# Altium integrated library National Semiconductor MiscPower.IntLib: 1552 symbols (part 30 of 43)
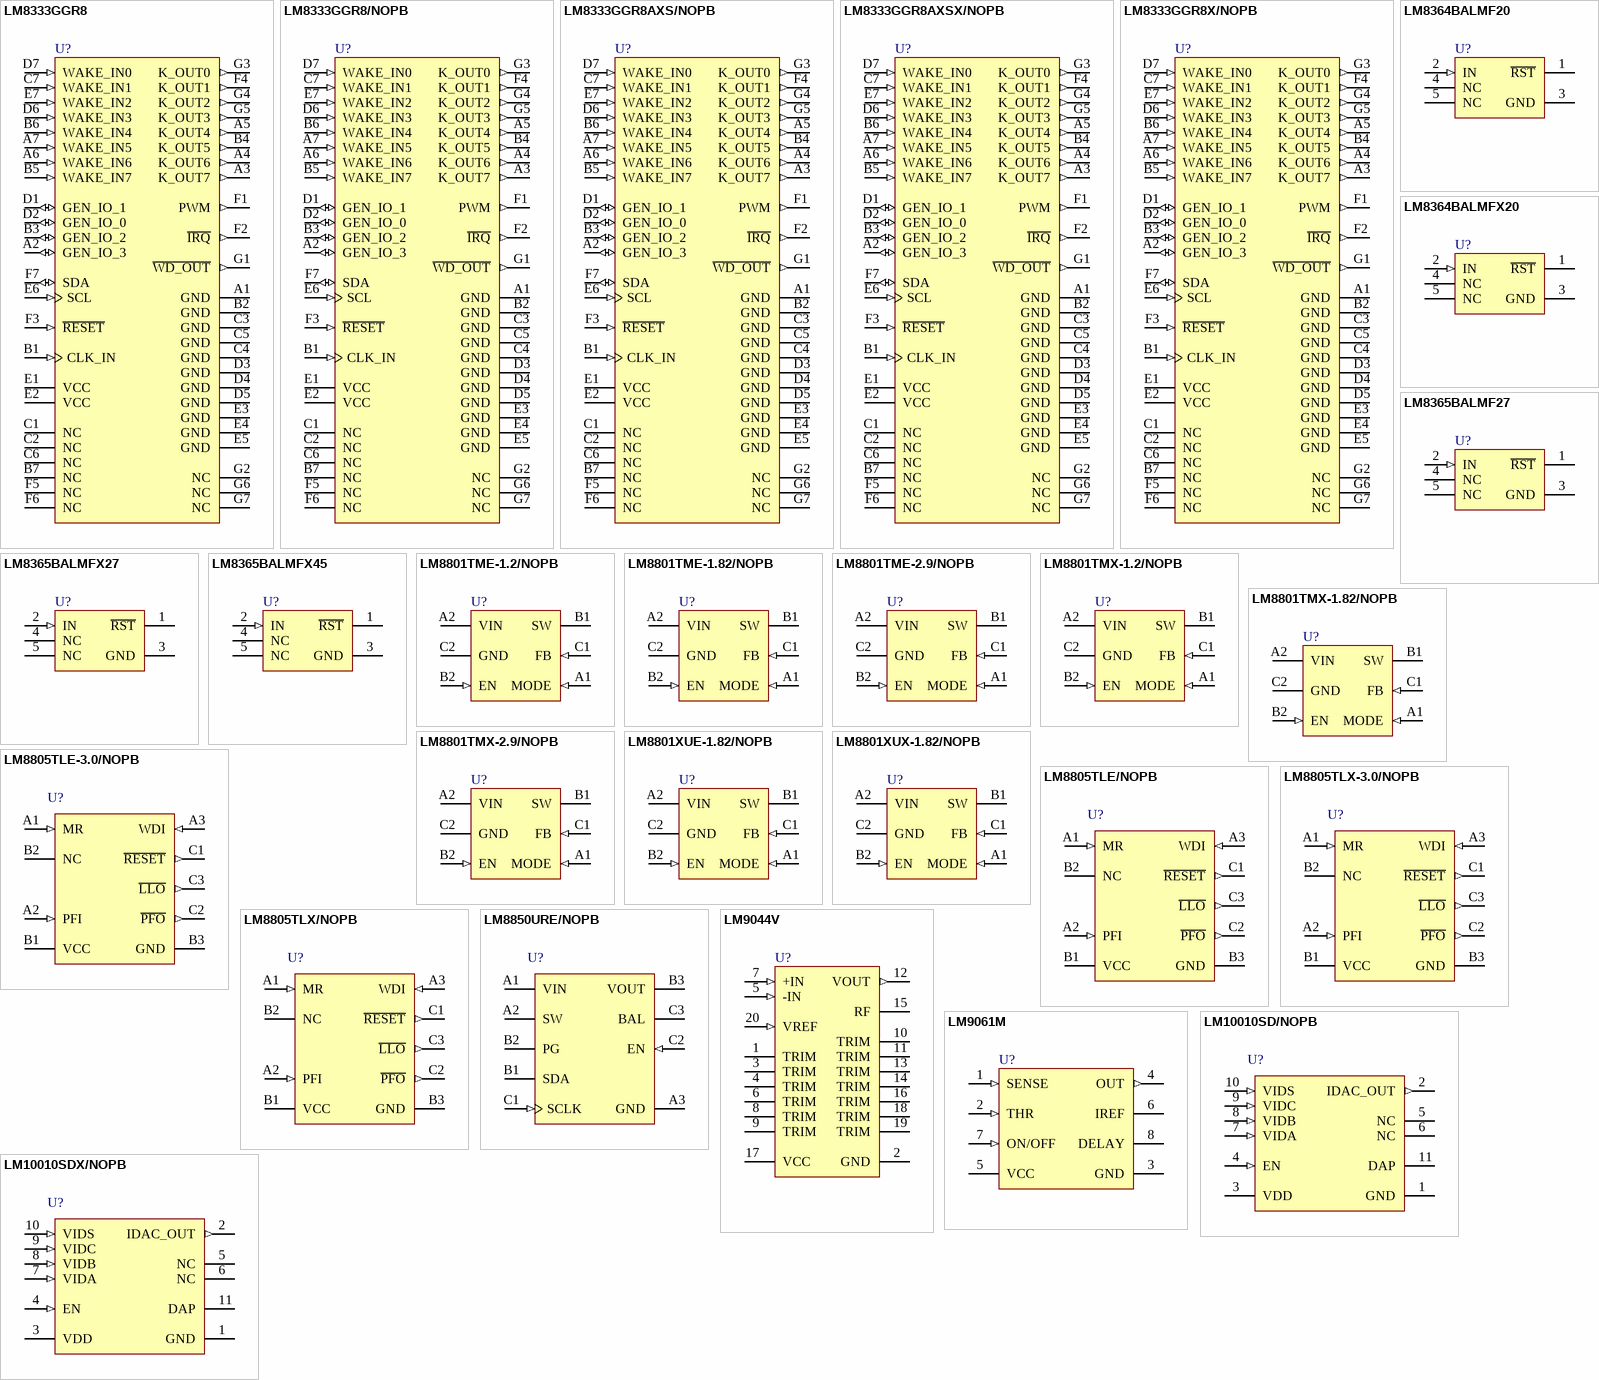
[diagram p86: symbols LM8333GGR8 to LM10010SDX/NOPB]

## LM9061M
designator U?
Power MOSFET Driver with Lossless Protection, 8-pin Narrow SOIC; PartNumber: LM9061M; Manufacturer: National Semiconductor; PackageTopMarking: NSZXTT*LM90*61M; PowerWise: N; CompType: MiscPower; High-Reliability: Y; DatasheetVersion: Aug-2006; PackageVersion: revM, May-2009; PackageReference: M08A; PackageDescription: SOIC Narrow, 4.9 x 3.9 x 1.45mm, 8 Lead, 1.27mm Pitch; RoHS: N; PinCount: 8; Code_JEDEC: MS-012-AA; Code_IPC: SOIC127P600-8; ComponentLink1Description: Manufacturer URL; ComponentLink1URL: http://www.national.com/; ComponentLink2Description: LM9061 Datasheet; ComponentLink2URL: http://www.national.com/ds/LM/LM9061.pdf; ComponentLink3Description: LM9061 Web Page; ComponentLink3URL: http://www.national.com/pf/LM/LM9061.html; ComponentLink4Description: M08A Package Page; ComponentLink4URL: http://www.national.com/packaging/folders/m08a.html
footprint M08A_N (SOIC, 8-Leads, Body 4.9x3.9mm, Pitch 1.27mm, IPC Medium Density)
footprint M08A_L (SOIC, 8-Leads, Body 4.9x3.9mm, Pitch 1.27mm, IPC High Density)
footprint M08A_M (SOIC, 8-Leads, Body 4.9x3.9mm, Pitch 1.27mm, IPC Low Density)
pins: 1 SENSE (in), 2 THR (in), 3 GND (power), 4 OUT (out), 5 VCC (power), 6 IREF, 7 ON/OFF (in), 8 DELAY

## LM10010SD/NOPB
designator U?
VID Voltage Programmer for Point of Load Regulator, 10-pin LLP, 1000 Reel; PartNumber: LM10010SD/NOPB; Manufacturer: National Semiconductor; PackageTopMarking: ZXYTT*L254B; PowerWise: N; CompType: MiscPower; High-Reliability: Y; DatasheetVersion: Aug-2011; PackageVersion: revA, Oct-2003; PackageReference: SDA10A; PackageDescription: LLP, Plastic, Dual, 3 x 3 x 0.8mm Body, 10 Lead, 0.5mm Pitch, No Pullback; RoHS: Y; PinCount: 10; ComponentLink1Description: Manufacturer URL; ComponentLink1URL: http://www.national.com/; ComponentLink2Description: LM10010 Datasheet; ComponentLink2URL: http://www.national.com/ds/LM/LM10010.pdf; ComponentLink3Description: LM10010 Web Page; ComponentLink3URL: http://www.national.com/pf/LM/LM10010.html; ComponentLink4Description: SDA10A Package Page; ComponentLink4URL: http://www.national.com/packaging/folders/sda10a.html
footprint SDA10A (SON, 10-Leads, Body 3x3 mm, Pitch 0.5mm, NSC Recommended)
pins: 1 GND (power), 2 IDAC_OUT (out), 3 VDD (power), 4 EN (in), 5 NC, 6 NC, 7 VIDA (in), 8 VIDB (in), 9 VIDC (in), 10 VIDS (in), 11 DAP

## LM10010SDX/NOPB
designator U?
VID Voltage Programmer for Point of Load Regulator, 10-pin LLP, 4500 Reel; PartNumber: LM10010SDX/NOPB; Manufacturer: National Semiconductor; PackageTopMarking: ZXYTT*L254B; PowerWise: N; CompType: MiscPower; High-Reliability: Y; DatasheetVersion: Aug-2011; PackageVersion: revA, Oct-2003; PackageReference: SDA10A; PackageDescription: LLP, Plastic, Dual, 3 x 3 x 0.8mm Body, 10 Lead, 0.5mm Pitch, No Pullback; RoHS: Y; PinCount: 10; ComponentLink1Description: Manufacturer URL; ComponentLink1URL: http://www.national.com/; ComponentLink2Description: LM10010 Datasheet; ComponentLink2URL: http://www.national.com/ds/LM/LM10010.pdf; ComponentLink3Description: LM10010 Web Page; ComponentLink3URL: http://www.national.com/pf/LM/LM10010.html; ComponentLink4Description: SDA10A Package Page; ComponentLink4URL: http://www.national.com/packaging/folders/sda10a.html
footprint SDA10A (SON, 10-Leads, Body 3x3 mm, Pitch 0.5mm, NSC Recommended)
pins: 1 GND (power), 2 IDAC_OUT (out), 3 VDD (power), 4 EN (in), 5 NC, 6 NC, 7 VIDA (in), 8 VIDB (in), 9 VIDC (in), 10 VIDS (in), 11 DAP

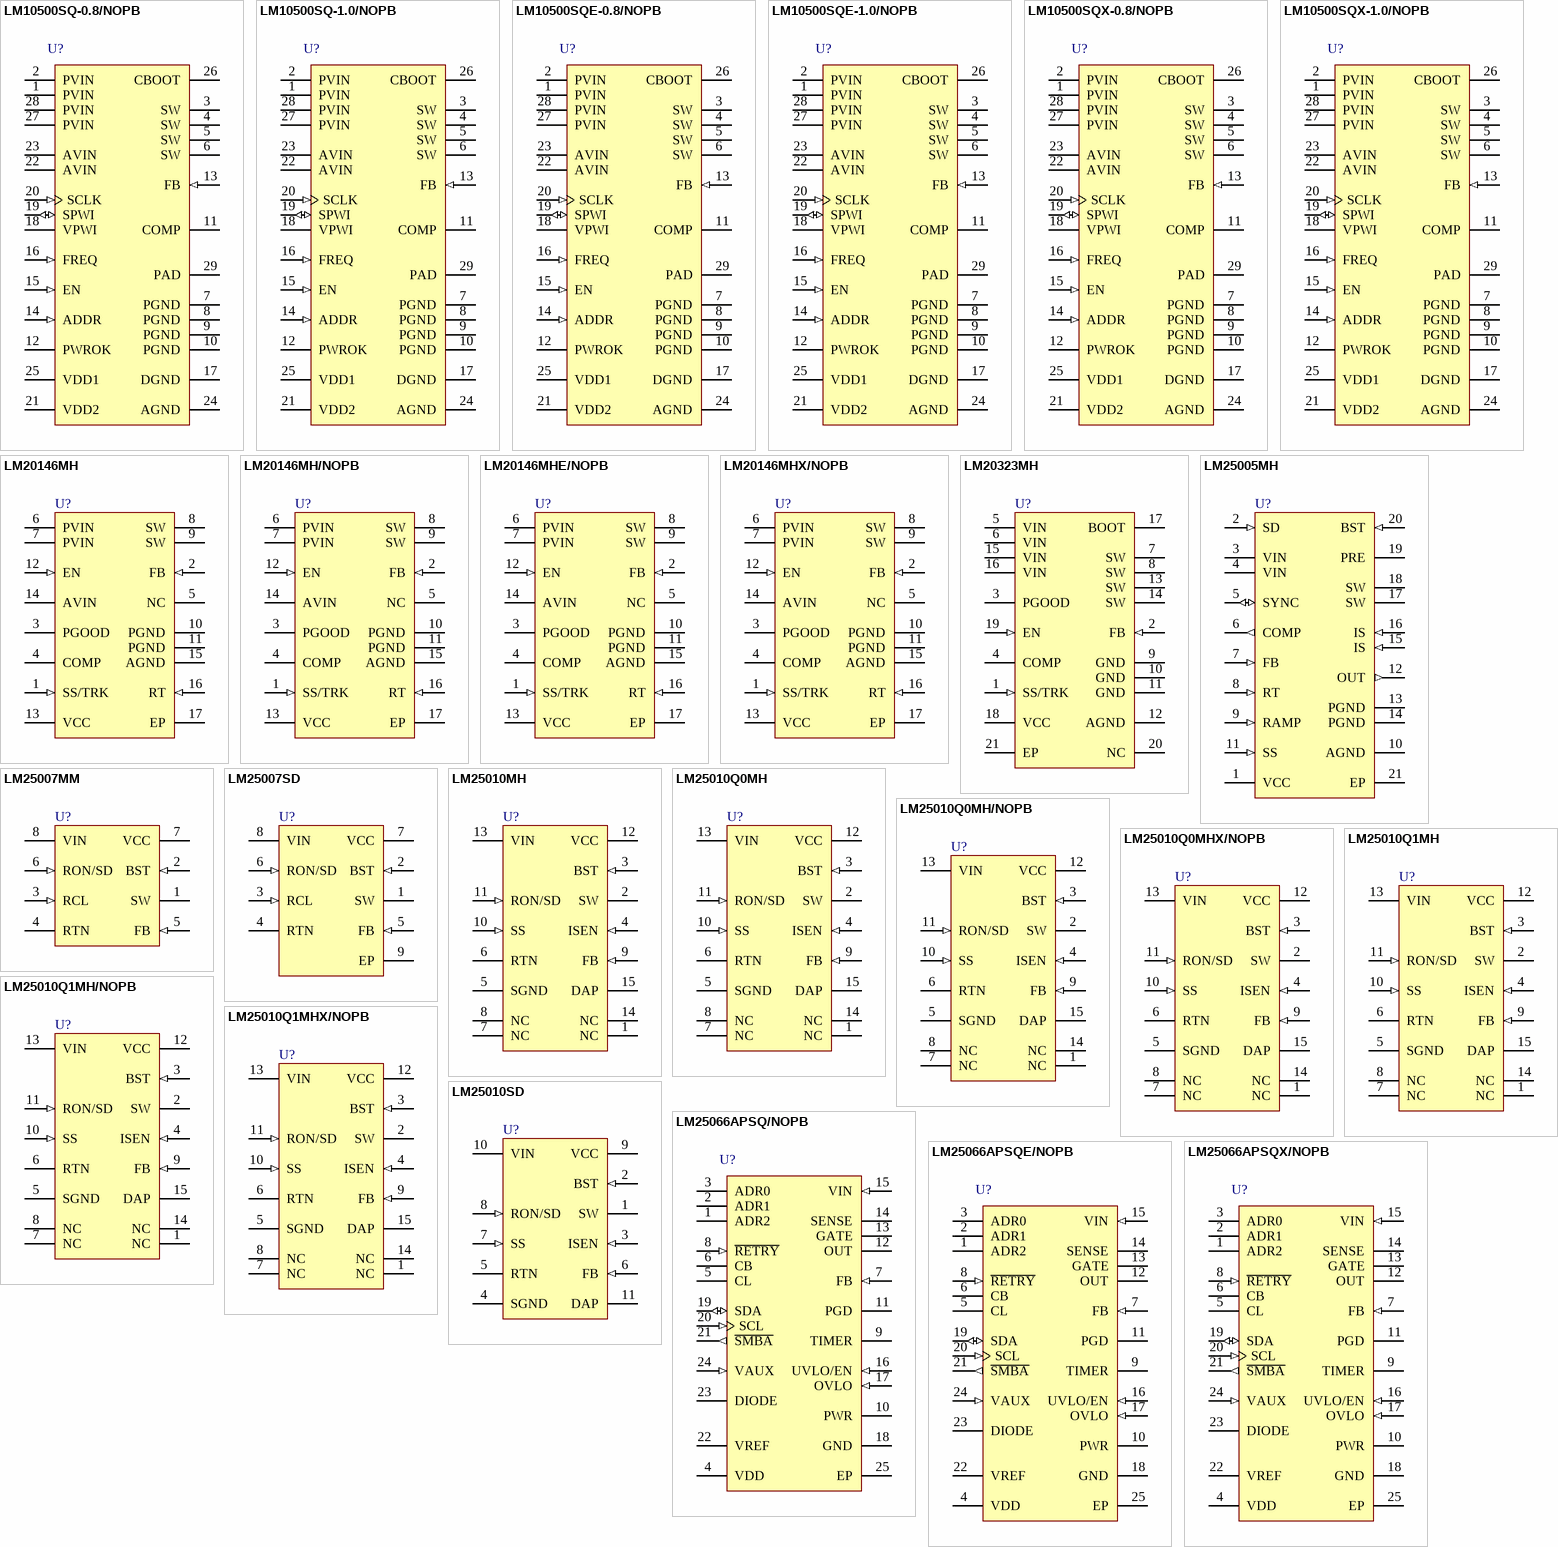
[diagram p33: symbols LM10500SQ-0.8/NOPB to LM25066APSQX/NOPB]

## LM10500SQ-0.8/NOPB
designator U?
5A Step-Down Energy Management Unit (EMU) With PowerWise® Adaptive Voltage Scaling (AVS), 28-pin LLP, 1000 Reel; PartNumber: LM10500SQ-0.8/NOPB; Manufacturer: National Semiconductor; PackageTopMarking: NS*UZXYTT*1050008; PowerWise: Y; CompType: MiscPower; DatasheetVersion: Sep-2011; PackageVersion: revB, Sep-2008; PackageReference: SQA28B; PackageDescription: LLP, Quad, 5 x 5 x 0.8mm Body, 28 Lead, 0.5mm Pitch, No Pullback, 2.8 x 2.8 mm Exposed Pad; RoHS: Y; PinCount: 28; High-Reliability: Y; Code_JEDEC: MO-220-WHHD-1; ComponentLink1Description: Manufacturer URL; ComponentLink1URL: http://www.national.com/; ComponentLink2Description: LM10500 Datasheet; ComponentLink2URL: http://www.national.com/ds/LM/LM10500.pdf; ComponentLink3Description: LM10500 Web Page; ComponentLink3URL: http://www.national.com/pf/LM/LM10500.html; ComponentLink4Description: SQA28B Package Page; ComponentLink4URL: http://www.national.com/packaging/folders/sqa28b.html
footprint SQA28B (QFN, 29-Leads, Body 5x5mm, Pitch 0.5mm, Thermal Pad 2.8x2.8mm, NSC Recommended)
pins: 1 PVIN (power), 2 PVIN (power), 3 SW (power), 4 SW (power), 5 SW (power), 6 SW (power), 7 PGND (power), 8 PGND (power), 9 PGND (power), 10 PGND (power), 11 COMP, 12 PWROK (oc), 13 FB (in), 14 ADDR (in), 15 EN (in), 16 FREQ (in), 17 DGND (power), 18 VPWI (power), 19 SPWI (io), 20 SCLK (in), 21 VDD2 (power), 22 AVIN (power), 23 AVIN (power), 24 AGND (power), 25 VDD1 (power), 26 CBOOT, 27 PVIN (power), 28 PVIN (power), 29 PAD (power)

## LM10500SQ-1.0/NOPB
designator U?
5A Step-Down Energy Management Unit (EMU) With PowerWise® Adaptive Voltage Scaling (AVS), 28-pin LLP, 1000 Reel; PartNumber: LM10500SQ-1.0/NOPB; Manufacturer: National Semiconductor; PackageTopMarking: NS*UZXYTT*1050010; PowerWise: Y; CompType: MiscPower; DatasheetVersion: Sep-2011; PackageVersion: revB, Sep-2008; PackageReference: SQA28B; PackageDescription: LLP, Quad, 5 x 5 x 0.8mm Body, 28 Lead, 0.5mm Pitch, No Pullback, 2.8 x 2.8 mm Exposed Pad; RoHS: Y; PinCount: 28; High-Reliability: Y; Code_JEDEC: MO-220-WHHD-1; ComponentLink1Description: Manufacturer URL; ComponentLink1URL: http://www.national.com/; ComponentLink2Description: LM10500 Datasheet; ComponentLink2URL: http://www.national.com/ds/LM/LM10500.pdf; ComponentLink3Description: LM10500 Web Page; ComponentLink3URL: http://www.national.com/pf/LM/LM10500.html; ComponentLink4Description: SQA28B Package Page; ComponentLink4URL: http://www.national.com/packaging/folders/sqa28b.html
footprint SQA28B (QFN, 29-Leads, Body 5x5mm, Pitch 0.5mm, Thermal Pad 2.8x2.8mm, NSC Recommended)
pins: 1 PVIN (power), 2 PVIN (power), 3 SW (power), 4 SW (power), 5 SW (power), 6 SW (power), 7 PGND (power), 8 PGND (power), 9 PGND (power), 10 PGND (power), 11 COMP, 12 PWROK (oc), 13 FB (in), 14 ADDR (in), 15 EN (in), 16 FREQ (in), 17 DGND (power), 18 VPWI (power), 19 SPWI (io), 20 SCLK (in), 21 VDD2 (power), 22 AVIN (power), 23 AVIN (power), 24 AGND (power), 25 VDD1 (power), 26 CBOOT, 27 PVIN (power), 28 PVIN (power), 29 PAD (power)

## LM10500SQE-0.8/NOPB
designator U?
5A Step-Down Energy Management Unit (EMU) With PowerWise® Adaptive Voltage Scaling (AVS), 28-pin LLP, 2520 Reel; PartNumber: LM10500SQE-0.8/NOPB; Manufacturer: National Semiconductor; PackageTopMarking: NS*UZXYTT*1050008; PowerWise: N; CompType: MiscPower; High-Reliability: Y; DatasheetVersion: Sep-2011; PackageVersion: revB, Sep-2008; PackageReference: SQA28B; PackageDescription: LLP, Quad, 5 x 5 x 0.8mm Body, 28 Lead, 0.5mm Pitch, No Pullback, 2.8 x 2.8 mm Exposed Pad; RoHS: Y; PinCount: 28; Code_JEDEC: MO-220-WHHD-1; ComponentLink1Description: Manufacturer URL; ComponentLink1URL: http://www.national.com/; ComponentLink2Description: LM10500 Datasheet; ComponentLink2URL: http://www.national.com/ds/LM/LM10500.pdf; ComponentLink3Description: LM10500 Web Page; ComponentLink3URL: http://www.national.com/pf/LM/LM10500.html; ComponentLink4Description: SQA28B Package Page; ComponentLink4URL: http://www.national.com/packaging/folders/sqa28b.html
footprint SQA28B (QFN, 29-Leads, Body 5x5mm, Pitch 0.5mm, Thermal Pad 2.8x2.8mm, NSC Recommended)
pins: 1 PVIN (power), 2 PVIN (power), 3 SW (power), 4 SW (power), 5 SW (power), 6 SW (power), 7 PGND (power), 8 PGND (power), 9 PGND (power), 10 PGND (power), 11 COMP, 12 PWROK (oc), 13 FB (in), 14 ADDR (in), 15 EN (in), 16 FREQ (in), 17 DGND (power), 18 VPWI (power), 19 SPWI (io), 20 SCLK (in), 21 VDD2 (power), 22 AVIN (power), 23 AVIN (power), 24 AGND (power), 25 VDD1 (power), 26 CBOOT, 27 PVIN (power), 28 PVIN (power), 29 PAD (power)

## LM10500SQE-1.0/NOPB
designator U?
5A Step-Down Energy Management Unit (EMU) With PowerWise® Adaptive Voltage Scaling (AVS), 28-pin LLP, 2520 Reel; PartNumber: LM10500SQE-1.0/NOPB; Manufacturer: National Semiconductor; PackageTopMarking: NS*UZXYTT*1050010; PowerWise: N; CompType: MiscPower; High-Reliability: Y; DatasheetVersion: Sep-2011; PackageVersion: revB, Sep-2008; PackageReference: SQA28B; PackageDescription: LLP, Quad, 5 x 5 x 0.8mm Body, 28 Lead, 0.5mm Pitch, No Pullback, 2.8 x 2.8 mm Exposed Pad; RoHS: Y; PinCount: 28; Code_JEDEC: MO-220-WHHD-1; ComponentLink1Description: Manufacturer URL; ComponentLink1URL: http://www.national.com/; ComponentLink2Description: LM10500 Datasheet; ComponentLink2URL: http://www.national.com/ds/LM/LM10500.pdf; ComponentLink3Description: LM10500 Web Page; ComponentLink3URL: http://www.national.com/pf/LM/LM10500.html; ComponentLink4Description: SQA28B Package Page; ComponentLink4URL: http://www.national.com/packaging/folders/sqa28b.html
footprint SQA28B (QFN, 29-Leads, Body 5x5mm, Pitch 0.5mm, Thermal Pad 2.8x2.8mm, NSC Recommended)
pins: 1 PVIN (power), 2 PVIN (power), 3 SW (power), 4 SW (power), 5 SW (power), 6 SW (power), 7 PGND (power), 8 PGND (power), 9 PGND (power), 10 PGND (power), 11 COMP, 12 PWROK (oc), 13 FB (in), 14 ADDR (in), 15 EN (in), 16 FREQ (in), 17 DGND (power), 18 VPWI (power), 19 SPWI (io), 20 SCLK (in), 21 VDD2 (power), 22 AVIN (power), 23 AVIN (power), 24 AGND (power), 25 VDD1 (power), 26 CBOOT, 27 PVIN (power), 28 PVIN (power), 29 PAD (power)

## LM10500SQX-0.8/NOPB
designator U?
5A Step-Down Energy Management Unit (EMU) With PowerWise® Adaptive Voltage Scaling (AVS), 28-pin LLP, 4500 Reel; PartNumber: LM10500SQX-0.8/NOPB; Manufacturer: National Semiconductor; PackageTopMarking: NS*UZXYTT*1050008; PowerWise: Y; CompType: MiscPower; DatasheetVersion: Sep-2011; PackageVersion: revB, Sep-2008; PackageReference: SQA28B; PackageDescription: LLP, Quad, 5 x 5 x 0.8mm Body, 28 Lead, 0.5mm Pitch, No Pullback, 2.8 x 2.8 mm Exposed Pad; RoHS: Y; PinCount: 28; High-Reliability: Y; Code_JEDEC: MO-220-WHHD-1; ComponentLink1Description: Manufacturer URL; ComponentLink1URL: http://www.national.com/; ComponentLink2Description: LM10500 Datasheet; ComponentLink2URL: http://www.national.com/ds/LM/LM10500.pdf; ComponentLink3Description: LM10500 Web Page; ComponentLink3URL: http://www.national.com/pf/LM/LM10500.html; ComponentLink4Description: SQA28B Package Page; ComponentLink4URL: http://www.national.com/packaging/folders/sqa28b.html
footprint SQA28B (QFN, 29-Leads, Body 5x5mm, Pitch 0.5mm, Thermal Pad 2.8x2.8mm, NSC Recommended)
pins: 1 PVIN (power), 2 PVIN (power), 3 SW (power), 4 SW (power), 5 SW (power), 6 SW (power), 7 PGND (power), 8 PGND (power), 9 PGND (power), 10 PGND (power), 11 COMP, 12 PWROK (oc), 13 FB (in), 14 ADDR (in), 15 EN (in), 16 FREQ (in), 17 DGND (power), 18 VPWI (power), 19 SPWI (io), 20 SCLK (in), 21 VDD2 (power), 22 AVIN (power), 23 AVIN (power), 24 AGND (power), 25 VDD1 (power), 26 CBOOT, 27 PVIN (power), 28 PVIN (power), 29 PAD (power)

## LM10500SQX-1.0/NOPB
designator U?
5A Step-Down Energy Management Unit (EMU) With PowerWise® Adaptive Voltage Scaling (AVS), 28-pin LLP, 4500 Reel; PartNumber: LM10500SQX-1.0/NOPB; Manufacturer: National Semiconductor; PackageTopMarking: NS*UZXYTT*1050010; PowerWise: Y; CompType: MiscPower; DatasheetVersion: Sep-2011; PackageVersion: revB, Sep-2008; PackageReference: SQA28B; PackageDescription: LLP, Quad, 5 x 5 x 0.8mm Body, 28 Lead, 0.5mm Pitch, No Pullback, 2.8 x 2.8 mm Exposed Pad; RoHS: Y; PinCount: 28; High-Reliability: Y; Code_JEDEC: MO-220-WHHD-1; ComponentLink1Description: Manufacturer URL; ComponentLink1URL: http://www.national.com/; ComponentLink2Description: LM10500 Datasheet; ComponentLink2URL: http://www.national.com/ds/LM/LM10500.pdf; ComponentLink3Description: LM10500 Web Page; ComponentLink3URL: http://www.national.com/pf/LM/LM10500.html; ComponentLink4Description: SQA28B Package Page; ComponentLink4URL: http://www.national.com/packaging/folders/sqa28b.html
footprint SQA28B (QFN, 29-Leads, Body 5x5mm, Pitch 0.5mm, Thermal Pad 2.8x2.8mm, NSC Recommended)
pins: 1 PVIN (power), 2 PVIN (power), 3 SW (power), 4 SW (power), 5 SW (power), 6 SW (power), 7 PGND (power), 8 PGND (power), 9 PGND (power), 10 PGND (power), 11 COMP, 12 PWROK (oc), 13 FB (in), 14 ADDR (in), 15 EN (in), 16 FREQ (in), 17 DGND (power), 18 VPWI (power), 19 SPWI (io), 20 SCLK (in), 21 VDD2 (power), 22 AVIN (power), 23 AVIN (power), 24 AGND (power), 25 VDD1 (power), 26 CBOOT, 27 PVIN (power), 28 PVIN (power), 29 PAD (power)

## LM20146MH
designator U?
6A, Adjustable Frequency Synchronous Buck Regulator, 16-pin TSSOP-EP; PartNumber: LM20146MH; Manufacturer: National Semiconductor; PackageTopMarking: NSUZXYTT*L20146*MH; PowerWise: Y; CompType: MiscPower; DatasheetVersion: Feb-2009; PackageVersion: revA, Apr-2003; PackageReference: MXA16A; PackageDescription: Molded TSSOP, Jedec, Exposed Pad, 5.0 x 4.4 x 0.9mm Body,16 Lead, 0.65mm Pitch; RoHS: Y; PinCount: 16; High-Reliability: Y; Code_JEDEC: MO-153-ABT; ComponentLink1Description: Manufacturer URL; ComponentLink1URL: http://www.national.com/; ComponentLink2Description: LM20146 Datasheet; ComponentLink2URL: http://www.national.com/ds/LM/LM20146.pdf; ComponentLink3Description: LM20146 Web Page; ComponentLink3URL: http://www.national.com/pf/LM/LM20146.html; ComponentLink4Description: MXA16A Package Page; ComponentLink4URL: http://www.national.com/packaging/folders/mxa16a.html
footprint MXA16A_N (TSOP, 16-Leads, Body 5x4.4mm, Pitch 0.65mm, Thermal Pad, IPC Medium Density)
footprint MXA16A_L (TSOP, 16-Leads, Body 5x4.4mm, Pitch 0.65mm, Thermal Pad, IPC High Density)
footprint MXA16A_M (TSOP, 16-Leads, Body 5x4.4mm, Pitch 0.65mm, Thermal Pad, IPC Low Density)
pins: 1 SS/TRK (in), 2 FB (in), 3 PGOOD (oc), 4 COMP, 5 NC, 6 PVIN (power), 7 PVIN (power), 8 SW (power), 9 SW (power), 10 PGND (power), 11 PGND (power), 12 EN (in), 13 VCC (power), 14 AVIN (power), 15 AGND (power), 16 RT (in), 17 EP (power)

## LM20146MH/NOPB
designator U?
6A, Adjustable Frequency Synchronous Buck Regulator, 16-pin TSSOP-EP, Pb-Free; PartNumber: LM20146MH/NOPB; Manufacturer: National Semiconductor; PackageTopMarking: NSUZXYTT*L20146*MH; PowerWise: Y; CompType: MiscPower; DatasheetVersion: Feb-2009; PackageVersion: revA, Apr-2003; PackageReference: MXA16A; PackageDescription: Molded TSSOP, Jedec, Exposed Pad, 5.0 x 4.4 x 0.9mm Body,16 Lead, 0.65mm Pitch; RoHS: Y; PinCount: 16; High-Reliability: Y; Code_JEDEC: MO-153-ABT; ComponentLink1Description: Manufacturer URL; ComponentLink1URL: http://www.national.com/; ComponentLink2Description: LM20146 Datasheet; ComponentLink2URL: http://www.national.com/ds/LM/LM20146.pdf; ComponentLink3Description: LM20146 Web Page; ComponentLink3URL: http://www.national.com/pf/LM/LM20146.html; ComponentLink4Description: MXA16A Package Page; ComponentLink4URL: http://www.national.com/packaging/folders/mxa16a.html
footprint MXA16A_N (TSOP, 16-Leads, Body 5x4.4mm, Pitch 0.65mm, Thermal Pad, IPC Medium Density)
footprint MXA16A_L (TSOP, 16-Leads, Body 5x4.4mm, Pitch 0.65mm, Thermal Pad, IPC High Density)
footprint MXA16A_M (TSOP, 16-Leads, Body 5x4.4mm, Pitch 0.65mm, Thermal Pad, IPC Low Density)
pins: 1 SS/TRK (in), 2 FB (in), 3 PGOOD (oc), 4 COMP, 5 NC, 6 PVIN (power), 7 PVIN (power), 8 SW (power), 9 SW (power), 10 PGND (power), 11 PGND (power), 12 EN (in), 13 VCC (power), 14 AVIN (power), 15 AGND (power), 16 RT (in), 17 EP (power)

## LM20146MHE/NOPB
designator U?
6A, Adjustable Frequency Synchronous Buck Regulator, 16-pin TSSOP-EP, Pb-Free; PartNumber: LM20146MHE/NOPB; Manufacturer: National Semiconductor; PackageTopMarking: NSUZXYTT*L20146*MH; PowerWise: Y; CompType: MiscPower; DatasheetVersion: Feb-2009; PackageVersion: revA, Apr-2003; PackageReference: MXA16A; PackageDescription: Molded TSSOP, Jedec, Exposed Pad, 5.0 x 4.4 x 0.9mm Body,16 Lead, 0.65mm Pitch; RoHS: Y; PinCount: 16; High-Reliability: Y; Code_JEDEC: MO-153-ABT; ComponentLink1Description: Manufacturer URL; ComponentLink1URL: http://www.national.com/; ComponentLink2Description: LM20146 Datasheet; ComponentLink2URL: http://www.national.com/ds/LM/LM20146.pdf; ComponentLink3Description: LM20146 Web Page; ComponentLink3URL: http://www.national.com/pf/LM/LM20146.html; ComponentLink4Description: MXA16A Package Page; ComponentLink4URL: http://www.national.com/packaging/folders/mxa16a.html
footprint MXA16A_N (TSOP, 16-Leads, Body 5x4.4mm, Pitch 0.65mm, Thermal Pad, IPC Medium Density)
footprint MXA16A_L (TSOP, 16-Leads, Body 5x4.4mm, Pitch 0.65mm, Thermal Pad, IPC High Density)
footprint MXA16A_M (TSOP, 16-Leads, Body 5x4.4mm, Pitch 0.65mm, Thermal Pad, IPC Low Density)
pins: 1 SS/TRK (in), 2 FB (in), 3 PGOOD (oc), 4 COMP, 5 NC, 6 PVIN (power), 7 PVIN (power), 8 SW (power), 9 SW (power), 10 PGND (power), 11 PGND (power), 12 EN (in), 13 VCC (power), 14 AVIN (power), 15 AGND (power), 16 RT (in), 17 EP (power)

## LM20146MHX/NOPB
designator U?
6A, Adjustable Frequency Synchronous Buck Regulator, 16-pin TSSOP-EP, Pb-Free; PartNumber: LM20146MHX/NOPB; Manufacturer: National Semiconductor; PackageTopMarking: NSUZXYTT*L20146*MH; PowerWise: Y; CompType: MiscPower; DatasheetVersion: Feb-2009; PackageVersion: revA, Apr-2003; PackageReference: MXA16A; PackageDescription: Molded TSSOP, Jedec, Exposed Pad, 5.0 x 4.4 x 0.9mm Body,16 Lead, 0.65mm Pitch; RoHS: Y; PinCount: 16; High-Reliability: Y; Code_JEDEC: MO-153-ABT; ComponentLink1Description: Manufacturer URL; ComponentLink1URL: http://www.national.com/; ComponentLink2Description: LM20146 Datasheet; ComponentLink2URL: http://www.national.com/ds/LM/LM20146.pdf; ComponentLink3Description: LM20146 Web Page; ComponentLink3URL: http://www.national.com/pf/LM/LM20146.html; ComponentLink4Description: MXA16A Package Page; ComponentLink4URL: http://www.national.com/packaging/folders/mxa16a.html
footprint MXA16A_N (TSOP, 16-Leads, Body 5x4.4mm, Pitch 0.65mm, Thermal Pad, IPC Medium Density)
footprint MXA16A_L (TSOP, 16-Leads, Body 5x4.4mm, Pitch 0.65mm, Thermal Pad, IPC High Density)
footprint MXA16A_M (TSOP, 16-Leads, Body 5x4.4mm, Pitch 0.65mm, Thermal Pad, IPC Low Density)
pins: 1 SS/TRK (in), 2 FB (in), 3 PGOOD (oc), 4 COMP, 5 NC, 6 PVIN (power), 7 PVIN (power), 8 SW (power), 9 SW (power), 10 PGND (power), 11 PGND (power), 12 EN (in), 13 VCC (power), 14 AVIN (power), 15 AGND (power), 16 RT (in), 17 EP (power)

## LM20323MH
designator U?
36V,3A PowerWise 500 kHz Synchronous Buck Regulator Adjustable Frequency Synchronous Buck Regulator, 20-pin TSSOP-EP; PartNumber: LM20323MH; Manufacturer: National Semiconductor; PackageTopMarking: NSUZXYTT*20323MH; PowerWise: Y; CompType: MiscPower; DatasheetVersion: Jan-2009; PackageVersion: revC, Jul-2006; PackageReference: MXA20A; PackageDescription: Molded TSSOP, Jedec, 6.5 x 4.4 x 0.9mm Body, 20 Lead, 0.65mm Pitch, Exposed Pad; RoHS: Y; PinCount: 20; High-Reliability: Y; Code_JEDEC: MO-153-ACT; ComponentLink1Description: Manufacturer URL; ComponentLink1URL: http://www.national.com/; ComponentLink2Description: LM20323 Datasheet; ComponentLink2URL: http://www.national.com/ds/LM/LM20323.pdf; ComponentLink3Description: LM20323 Web Page; ComponentLink3URL: http://www.national.com/pf/LM/LM20323.html; ComponentLink4Description: MXA20A Package Page; ComponentLink4URL: http://www.national.com/packaging/folders/mxa20a.html
footprint MXA20A_N (TSOP, 20-Leads, Body 6.5x4.4mm, Pitch 0.65mm, Thermal Pad, IPC Medium Density)
footprint MXA20A_L (TSOP, 20-Leads, Body 6.5x4.4mm, Pitch 0.65mm, Thermal Pad, IPC High Density)
footprint MXA20A_M (TSOP, 20-Leads, Body 6.5x4.4mm, Pitch 0.65mm, Thermal Pad, IPC Low Density)
pins: 1 SS/TRK (in), 2 FB (in), 3 PGOOD (oc), 4 COMP, 5 VIN (power), 6 VIN (power), 7 SW (power), 8 SW (power), 9 GND (power), 10 GND (power), 11 GND (power), 12 AGND (power), 13 SW (power), 14 SW (power), 15 VIN (power), 16 VIN (power), 17 BOOT, 18 VCC (power), 19 EN (in), 20 NC, 21 EP (power)

## LM25005MH
designator U?
42V, 2.5A Step-Down Switching Regulator, 20-pin TSSOP-EP; PartNumber: LM25005MH; Manufacturer: National Semiconductor; PackageTopMarking: NSUZXYTT*LM25005*MH; PowerWise: N; CompType: MiscPower; High-Reliability: Y; DatasheetVersion: Mar-2006; PackageVersion: revC, Jul-2006; PackageReference: MXA20A; PackageDescription: Molded TSSOP, Jedec, 6.5 x 4.4 x 0.9mm Body, 20 Lead, 0.65mm Pitch, Exposed Pad; RoHS: N; PinCount: 20; Code_JEDEC: MO-153-ACT; ComponentLink1Description: Manufacturer URL; ComponentLink1URL: http://www.national.com/; ComponentLink2Description: LM25005 Datasheet; ComponentLink2URL: http://www.national.com/ds/LM/LM25005.pdf; ComponentLink3Description: LM25005 Web Page; ComponentLink3URL: http://www.national.com/pf/LM/LM25005.html; ComponentLink4Description: MXA20A Package Page; ComponentLink4URL: http://www.national.com/packaging/folders/mxa20a.html
footprint MXA20A_N (TSOP, 20-Leads, Body 6.5x4.4mm, Pitch 0.65mm, Thermal Pad, IPC Medium Density)
footprint MXA20A_L (TSOP, 20-Leads, Body 6.5x4.4mm, Pitch 0.65mm, Thermal Pad, IPC High Density)
footprint MXA20A_M (TSOP, 20-Leads, Body 6.5x4.4mm, Pitch 0.65mm, Thermal Pad, IPC Low Density)
pins: 1 VCC (power), 2 SD (in), 3 VIN (power), 4 VIN (power), 5 SYNC (io), 6 COMP (out), 7 FB (in), 8 RT (in), 9 RAMP (in), 10 AGND (power), 11 SS (in), 12 OUT (out), 13 PGND (power), 14 PGND (power), 15 IS (in), 16 IS (in), 17 SW (power), 18 SW (power), 19 PRE (oc), 20 BST (in), 21 EP (power)

## LM25007MM
designator U?
42V, 0.5A Step-Down Switching Regulator, 8-pin MSOP; PartNumber: LM25007MM; Manufacturer: National Semiconductor; PackageTopMarking: ZXTT*SLYB; PowerWise: N; CompType: MiscPower; High-Reliability: Y; DatasheetVersion: Feb-2008; PackageVersion: revF, Apr-2008; PackageReference: MUA08A; PackageDescription: MINI SOIC, .118 x .118 x .034in, 8 Lead, .0256in Pitch; RoHS: N; PinCount: 8; Code_JEDEC: MO-187-AA; ComponentLink1Description: Manufacturer URL; ComponentLink1URL: http://www.national.com/; ComponentLink2Description: LM25007 Datasheet; ComponentLink2URL: http://www.national.com/ds/LM/LM25007.pdf; ComponentLink3Description: LM25007 Web Page; ComponentLink3URL: http://www.national.com/pf/LM/LM25007.html; ComponentLink4Description: MUA08A Package Page; ComponentLink4URL: http://www.national.com/packaging/folders/mua08a.html
footprint MUA08A_N (TSOP, 8-Leads, Body 3x3mm, Pitch 0.65mm, IPC Medium Density)
footprint MUA08A_L (TSOP, 8-Leads, Body 3x3mm, Pitch 0.65mm, IPC High Density)
footprint MUA08A_M (TSOP, 8-Leads, Body 3x3mm, Pitch 0.65mm, IPC Low Density)
pins: 1 SW (power), 2 BST (in), 3 RCL (in), 4 RTN (power), 5 FB (in), 6 RON/SD (in), 7 VCC (power), 8 VIN (power)

## LM25007SD
designator U?
42V, 0.5A Step-Down Switching Regulator, 8-pin LLP; PartNumber: LM25007SD; Manufacturer: National Semiconductor; PackageTopMarking: NS*UZXYTT*25007SD; PowerWise: N; CompType: MiscPower; High-Reliability: Y; DatasheetVersion: Feb-2008; PackageVersion: revA, Jun-2003; PackageReference: SDC08A; PackageDescription: LLP, Plastic, Dual, 4 x 4 x 0.8mm Body, 8 Lead, 0.8mm Pitch, No Pullback; RoHS: N; PinCount: 8; ComponentLink1Description: Manufacturer URL; ComponentLink1URL: http://www.national.com/; ComponentLink2Description: LM25007 Datasheet; ComponentLink2URL: http://www.national.com/ds/LM/LM25007.pdf; ComponentLink3Description: LM25007 Web Page; ComponentLink3URL: http://www.national.com/pf/LM/LM25007.html; ComponentLink4Description: SDC08A Package Page; ComponentLink4URL: http://www.national.com/packaging/folders/sdc08a.html
footprint SDC08A (SON, 8-Leads, Body 4x4mm, Pitch 0.8mm, NSC Recommended)
pins: 1 SW (power), 2 BST (in), 3 RCL (in), 4 RTN (power), 5 FB (in), 6 RON/SD (in), 7 VCC (power), 8 VIN (power), 9 EP (power)

## LM25010MH
designator U?
42V, 1.0A Step-Down Switching Regulator, 14-pin TSSOP-EP; PartNumber: LM25010MH; Manufacturer: National Semiconductor; PackageTopMarking: NSUZXYTT*L25010*MH; PowerWise: N; CompType: MiscPower; High-Reliability: Y; DatasheetVersion: Dec-2008; PackageVersion: revA, Feb-2003; PackageReference: MXA14A; PackageDescription: Molded TSSOP, JEDEC, Exposed Pad, 5.0 x 4.4 x 0.9mm Body, 14 Lead, 0.65mm Pitch; RoHS: N; PinCount: 14; Code_JEDEC: MO-153-ABT-1; ComponentLink1Description: Manufacturer URL; ComponentLink1URL: http://www.national.com/; ComponentLink2Description: LM25010 Datasheet; ComponentLink2URL: http://www.national.com/ds/LM/LM25010.pdf; ComponentLink3Description: LM25010 Web Page; ComponentLink3URL: http://www.national.com/pf/LM/LM25010.html; ComponentLink4Description: MXA14A Package Page; ComponentLink4URL: http://www.national.com/packaging/folders/mxa14a.html
footprint MXA14A_N (TSOP, 14-Leads, Body 5x4.4mm, Pitch 0.65mm, Thermal Pad, IPC Medium Density)
footprint MXA14A_L (TSOP, 14-Leads, Body 5x4.4mm, Pitch 0.65mm, Thermal Pad, IPC High Density)
footprint MXA14A_M (TSOP, 14-Leads, Body 5x4.4mm, Pitch 0.65mm, Thermal Pad, IPC Low Density)
pins: 1 NC, 2 SW (power), 3 BST (in), 4 ISEN (in), 5 SGND (power), 6 RTN (power), 7 NC, 8 NC, 9 FB (in), 10 SS (in), 11 RON/SD (in), 12 VCC (power), 13 VIN (power), 14 NC, 15 DAP (power)

## LM25010Q0MH
designator U?
42V, 1.0A Step-Down Switching Regulator, Automotive Grade 0, 14-pin TSSOP-EP; PartNumber: LM25010Q0MH; Manufacturer: National Semiconductor; PackageTopMarking: NSUZXYTT*L25010*Q0MH; PowerWise: N; CompType: MiscPower; High-Reliability: Y; DatasheetVersion: Dec-2008; PackageVersion: revA, Feb-2003; PackageReference: MXA14A; PackageDescription: Molded TSSOP, JEDEC, Exposed Pad, 5.0 x 4.4 x 0.9mm Body, 14 Lead, 0.65mm Pitch; RoHS: Y; PinCount: 14; Code_JEDEC: MO-153-ABT-1; ComponentLink1Description: Manufacturer URL; ComponentLink1URL: http://www.national.com/; ComponentLink2Description: LM25010 Datasheet; ComponentLink2URL: http://www.national.com/ds/LM/LM25010.pdf; ComponentLink3Description: LM25010 Web Page; ComponentLink3URL: http://www.national.com/pf/LM/LM25010.html; ComponentLink4Description: MXA14A Package Page; ComponentLink4URL: http://www.national.com/packaging/folders/mxa14a.html
footprint MXA14A_N (TSOP, 14-Leads, Body 5x4.4mm, Pitch 0.65mm, Thermal Pad, IPC Medium Density)
footprint MXA14A_L (TSOP, 14-Leads, Body 5x4.4mm, Pitch 0.65mm, Thermal Pad, IPC High Density)
footprint MXA14A_M (TSOP, 14-Leads, Body 5x4.4mm, Pitch 0.65mm, Thermal Pad, IPC Low Density)
pins: 1 NC, 2 SW (power), 3 BST (in), 4 ISEN (in), 5 SGND (power), 6 RTN (power), 7 NC, 8 NC, 9 FB (in), 10 SS (in), 11 RON/SD (in), 12 VCC (power), 13 VIN (power), 14 NC, 15 DAP (power)

## LM25010Q0MH/NOPB
designator U?
42V, 1.0A Step-Down Switching Regulator, 14-pin TSSOP-EP, Pb-Free; PartNumber: LM25010Q0MH/NOPB; Manufacturer: National Semiconductor; PackageTopMarking: NSUZXYTT*L25010*Q0MH; PowerWise: N; CompType: MiscPower; High-Reliability: Y; DatasheetVersion: Dec-2008; PackageVersion: revA, Feb-2003; PackageReference: MXA14A; PackageDescription: Molded TSSOP, JEDEC, Exposed Pad, 5.0 x 4.4 x 0.9mm Body, 14 Lead, 0.65mm Pitch; RoHS: Y; PinCount: 14; Code_JEDEC: MO-153-ABT-1; ComponentLink1Description: Manufacturer URL; ComponentLink1URL: http://www.national.com/; ComponentLink2Description: LM25010 Datasheet; ComponentLink2URL: http://www.national.com/ds/LM/LM25010.pdf; ComponentLink3Description: LM25010 Web Page; ComponentLink3URL: http://www.national.com/pf/LM/LM25010.html; ComponentLink4Description: MXA14A Package Page; ComponentLink4URL: http://www.national.com/packaging/folders/mxa14a.html
footprint MXA14A_N (TSOP, 14-Leads, Body 5x4.4mm, Pitch 0.65mm, Thermal Pad, IPC Medium Density)
footprint MXA14A_L (TSOP, 14-Leads, Body 5x4.4mm, Pitch 0.65mm, Thermal Pad, IPC High Density)
footprint MXA14A_M (TSOP, 14-Leads, Body 5x4.4mm, Pitch 0.65mm, Thermal Pad, IPC Low Density)
pins: 1 NC, 2 SW (power), 3 BST (in), 4 ISEN (in), 5 SGND (power), 6 RTN (power), 7 NC, 8 NC, 9 FB (in), 10 SS (in), 11 RON/SD (in), 12 VCC (power), 13 VIN (power), 14 NC, 15 DAP (power)

## LM25010Q0MHX/NOPB
designator U?
42V, 1.0A Step-Down Switching Regulator, 14-pin TSSOP-EP, Pb-Free; PartNumber: LM25010Q0MHX/NOPB; Manufacturer: National Semiconductor; PackageTopMarking: NSUZXYTT*L25010*Q0MH; PowerWise: N; CompType: MiscPower; High-Reliability: Y; DatasheetVersion: Dec-2008; PackageVersion: revA, Feb-2003; PackageReference: MXA14A; PackageDescription: Molded TSSOP, JEDEC, Exposed Pad, 5.0 x 4.4 x 0.9mm Body, 14 Lead, 0.65mm Pitch; RoHS: Y; PinCount: 14; Code_JEDEC: MO-153-ABT-1; ComponentLink1Description: Manufacturer URL; ComponentLink1URL: http://www.national.com/; ComponentLink2Description: LM25010 Datasheet; ComponentLink2URL: http://www.national.com/ds/LM/LM25010.pdf; ComponentLink3Description: LM25010 Web Page; ComponentLink3URL: http://www.national.com/pf/LM/LM25010.html; ComponentLink4Description: MXA14A Package Page; ComponentLink4URL: http://www.national.com/packaging/folders/mxa14a.html
footprint MXA14A_N (TSOP, 14-Leads, Body 5x4.4mm, Pitch 0.65mm, Thermal Pad, IPC Medium Density)
footprint MXA14A_L (TSOP, 14-Leads, Body 5x4.4mm, Pitch 0.65mm, Thermal Pad, IPC High Density)
footprint MXA14A_M (TSOP, 14-Leads, Body 5x4.4mm, Pitch 0.65mm, Thermal Pad, IPC Low Density)
pins: 1 NC, 2 SW (power), 3 BST (in), 4 ISEN (in), 5 SGND (power), 6 RTN (power), 7 NC, 8 NC, 9 FB (in), 10 SS (in), 11 RON/SD (in), 12 VCC (power), 13 VIN (power), 14 NC, 15 DAP (power)

## LM25010Q1MH
designator U?
42V, 1.0A Step-Down Switching Regulator, Automotive Grade 1, 14-pin TSSOP-EP; PartNumber: LM25010Q1MH; Manufacturer: National Semiconductor; PackageTopMarking: NSUZXYTT*L25010*Q1MH; PowerWise: N; CompType: MiscPower; High-Reliability: Y; DatasheetVersion: Dec-2008; PackageVersion: revA, Feb-2003; PackageReference: MXA14A; PackageDescription: Molded TSSOP, JEDEC, Exposed Pad, 5.0 x 4.4 x 0.9mm Body, 14 Lead, 0.65mm Pitch; RoHS: Y; PinCount: 14; Code_JEDEC: MO-153-ABT-1; ComponentLink1Description: Manufacturer URL; ComponentLink1URL: http://www.national.com/; ComponentLink2Description: LM25010 Datasheet; ComponentLink2URL: http://www.national.com/ds/LM/LM25010.pdf; ComponentLink3Description: LM25010 Web Page; ComponentLink3URL: http://www.national.com/pf/LM/LM25010.html; ComponentLink4Description: MXA14A Package Page; ComponentLink4URL: http://www.national.com/packaging/folders/mxa14a.html
footprint MXA14A_N (TSOP, 14-Leads, Body 5x4.4mm, Pitch 0.65mm, Thermal Pad, IPC Medium Density)
footprint MXA14A_L (TSOP, 14-Leads, Body 5x4.4mm, Pitch 0.65mm, Thermal Pad, IPC High Density)
footprint MXA14A_M (TSOP, 14-Leads, Body 5x4.4mm, Pitch 0.65mm, Thermal Pad, IPC Low Density)
pins: 1 NC, 2 SW (power), 3 BST (in), 4 ISEN (in), 5 SGND (power), 6 RTN (power), 7 NC, 8 NC, 9 FB (in), 10 SS (in), 11 RON/SD (in), 12 VCC (power), 13 VIN (power), 14 NC, 15 DAP (power)

## LM25010Q1MH/NOPB
designator U?
42V, 1.0A Step-Down Switching Regulator, 14-pin TSSOP-EP, Pb-Free; PartNumber: LM25010Q1MH/NOPB; Manufacturer: National Semiconductor; PackageTopMarking: NSUZXYTT*L25010*Q1MH; PowerWise: N; CompType: MiscPower; High-Reliability: Y; DatasheetVersion: Dec-2008; PackageVersion: revA, Feb-2003; PackageReference: MXA14A; PackageDescription: Molded TSSOP, JEDEC, Exposed Pad, 5.0 x 4.4 x 0.9mm Body, 14 Lead, 0.65mm Pitch; RoHS: Y; PinCount: 14; Code_JEDEC: MO-153-ABT-1; ComponentLink1Description: Manufacturer URL; ComponentLink1URL: http://www.national.com/; ComponentLink2Description: LM25010 Datasheet; ComponentLink2URL: http://www.national.com/ds/LM/LM25010.pdf; ComponentLink3Description: LM25010 Web Page; ComponentLink3URL: http://www.national.com/pf/LM/LM25010.html; ComponentLink4Description: MXA14A Package Page; ComponentLink4URL: http://www.national.com/packaging/folders/mxa14a.html
footprint MXA14A_N (TSOP, 14-Leads, Body 5x4.4mm, Pitch 0.65mm, Thermal Pad, IPC Medium Density)
footprint MXA14A_L (TSOP, 14-Leads, Body 5x4.4mm, Pitch 0.65mm, Thermal Pad, IPC High Density)
footprint MXA14A_M (TSOP, 14-Leads, Body 5x4.4mm, Pitch 0.65mm, Thermal Pad, IPC Low Density)
pins: 1 NC, 2 SW (power), 3 BST (in), 4 ISEN (in), 5 SGND (power), 6 RTN (power), 7 NC, 8 NC, 9 FB (in), 10 SS (in), 11 RON/SD (in), 12 VCC (power), 13 VIN (power), 14 NC, 15 DAP (power)

## LM25010Q1MHX/NOPB
designator U?
42V, 1.0A Step-Down Switching Regulator, 14-pin TSSOP-EP, Pb-Free; PartNumber: LM25010Q1MHX/NOPB; Manufacturer: National Semiconductor; PackageTopMarking: NSUZXYTT*L25010*Q1MH; PowerWise: N; CompType: MiscPower; High-Reliability: Y; DatasheetVersion: Dec-2008; PackageVersion: revA, Feb-2003; PackageReference: MXA14A; PackageDescription: Molded TSSOP, JEDEC, Exposed Pad, 5.0 x 4.4 x 0.9mm Body, 14 Lead, 0.65mm Pitch; RoHS: Y; PinCount: 14; Code_JEDEC: MO-153-ABT-1; ComponentLink1Description: Manufacturer URL; ComponentLink1URL: http://www.national.com/; ComponentLink2Description: LM25010 Datasheet; ComponentLink2URL: http://www.national.com/ds/LM/LM25010.pdf; ComponentLink3Description: LM25010 Web Page; ComponentLink3URL: http://www.national.com/pf/LM/LM25010.html; ComponentLink4Description: MXA14A Package Page; ComponentLink4URL: http://www.national.com/packaging/folders/mxa14a.html
footprint MXA14A_N (TSOP, 14-Leads, Body 5x4.4mm, Pitch 0.65mm, Thermal Pad, IPC Medium Density)
footprint MXA14A_L (TSOP, 14-Leads, Body 5x4.4mm, Pitch 0.65mm, Thermal Pad, IPC High Density)
footprint MXA14A_M (TSOP, 14-Leads, Body 5x4.4mm, Pitch 0.65mm, Thermal Pad, IPC Low Density)
pins: 1 NC, 2 SW (power), 3 BST (in), 4 ISEN (in), 5 SGND (power), 6 RTN (power), 7 NC, 8 NC, 9 FB (in), 10 SS (in), 11 RON/SD (in), 12 VCC (power), 13 VIN (power), 14 NC, 15 DAP (power)

## LM25010SD
designator U?
42V, 1.0A Step-Down Switching Regulator, 10-pin LLP; PartNumber: LM25010SD; Manufacturer: National Semiconductor; PackageTopMarking: NS*UZXYTT*25010SD; PowerWise: N; CompType: MiscPower; High-Reliability: Y; DatasheetVersion: Dec-2008; PackageVersion: revA, May-2003; PackageReference: SDC10A; PackageDescription: LLP, Plastic, Dual, 4 x 4 x 0.8mm Body, 10 Lead, 0.8mm Pitch, No Pullback; RoHS: N; PinCount: 10; ComponentLink1Description: Manufacturer URL; ComponentLink1URL: http://www.national.com/; ComponentLink2Description: LM25010 Datasheet; ComponentLink2URL: http://www.national.com/ds/LM/LM25010.pdf; ComponentLink3Description: LM25010 Web Page; ComponentLink3URL: http://www.national.com/pf/LM/LM25010.html; ComponentLink4Description: SDC10A Package Page; ComponentLink4URL: http://www.national.com/packaging/folders/sdc10a.html
footprint SDC10A (SON, 10-Leads, Body 4x4 mm, Pitch 0.8mm, NSC Recommended)
pins: 1 SW (power), 2 BST (in), 3 ISEN (in), 4 SGND (power), 5 RTN (power), 6 FB (in), 7 SS (in), 8 RON/SD (in), 9 VCC (power), 10 VIN (power), 11 DAP (power)

## LM25066APSQ/NOPB
designator U?
System Power Management and Protection IC with PMBus, 24-pin LLP, 1000 Reel; PartNumber: LM25066APSQ/NOPB; Manufacturer: National Semiconductor; PackageTopMarking: NS*UZXYTT*L25066A; PowerWise: Y; CompType: Switcher; DatasheetVersion: Jan-2011; PackageVersion: revA, Oct-2003; PackageReference: SQA24B; PackageDescription: LLP, Plastic, Quad, 5 x 4 x 0.8mm Body, 24 Lead, 0.5mm Pitch, No Pullback; RoHS: Y; PinCount: 24; High-Reliability: Y; Code_JEDEC: MO-220-WGHD-1; ComponentLink1Description: Manufacturer URL; ComponentLink1URL: http://www.national.com/; ComponentLink2Description: LM25066 Datasheet; ComponentLink2URL: http://www.national.com/ds/LM/LM25066A.pdf; ComponentLink3Description: LM25066 Web Page; ComponentLink3URL: http://www.national.com/pf/LM/LM25066.html; ComponentLink4Description: SQA24B Package Page; ComponentLink4URL: http://www.national.com/packaging/folders/sqa24b.html
footprint SQA24B (QFN, 24-Leads, Body 5x4mm, Pitch 0.5mm, NSC Recommended)
pins: 1 ADR2 (power), 2 ADR1 (power), 3 ADR0 (power), 4 VDD (power), 5 CL (power), 6 CB (power), 7 FB (in), 8 ~{RETRY} (in), 9 TIMER, 10 PWR (power), 11 PGD (oc), 12 OUT, 13 GATE, 14 SENSE, 15 VIN (in), 16 UVLO/EN (in), 17 OVLO (in), 18 GND (power), 19 SDA (io), 20 SCL (in), 21 ~{SMBA} (out), 22 VREF, 23 DIODE, 24 VAUX (in), 25 EP (power)

## LM25066APSQE/NOPB
designator U?
System Power Management and Protection IC with PMBus, 24-pin LLP, 250 Reel; PartNumber: LM25066APSQE/NOPB; Manufacturer: National Semiconductor; PackageTopMarking: NS*UZXYTT*L25066A; PowerWise: Y; CompType: Switcher; DatasheetVersion: Jan-2011; PackageVersion: revA, Oct-2003; PackageReference: SQA24B; PackageDescription: LLP, Plastic, Quad, 5 x 4 x 0.8mm Body, 24 Lead, 0.5mm Pitch, No Pullback; RoHS: Y; PinCount: 24; High-Reliability: Y; Code_JEDEC: MO-220-WGHD-1; ComponentLink1Description: Manufacturer URL; ComponentLink1URL: http://www.national.com/; ComponentLink2Description: LM25066 Datasheet; ComponentLink2URL: http://www.national.com/ds/LM/LM25066A.pdf; ComponentLink3Description: LM25066 Web Page; ComponentLink3URL: http://www.national.com/pf/LM/LM25066.html; ComponentLink4Description: SQA24B Package Page; ComponentLink4URL: http://www.national.com/packaging/folders/sqa24b.html
footprint SQA24B (QFN, 24-Leads, Body 5x4mm, Pitch 0.5mm, NSC Recommended)
pins: 1 ADR2 (power), 2 ADR1 (power), 3 ADR0 (power), 4 VDD (power), 5 CL (power), 6 CB (power), 7 FB (in), 8 ~{RETRY} (in), 9 TIMER, 10 PWR (power), 11 PGD (oc), 12 OUT, 13 GATE, 14 SENSE, 15 VIN (in), 16 UVLO/EN (in), 17 OVLO (in), 18 GND (power), 19 SDA (io), 20 SCL (in), 21 ~{SMBA} (out), 22 VREF, 23 DIODE, 24 VAUX (in), 25 EP (power)

## LM25066APSQX/NOPB
designator U?
System Power Management and Protection IC with PMBus, 24-pin LLP, 4500 Reel; PartNumber: LM25066APSQX/NOPB; Manufacturer: National Semiconductor; PackageTopMarking: NS*UZXYTT*L25066A; PowerWise: Y; CompType: Switcher; DatasheetVersion: Jan-2011; PackageVersion: revA, Oct-2003; PackageReference: SQA24B; PackageDescription: LLP, Plastic, Quad, 5 x 4 x 0.8mm Body, 24 Lead, 0.5mm Pitch, No Pullback; RoHS: Y; PinCount: 24; High-Reliability: Y; Code_JEDEC: MO-220-WGHD-1; ComponentLink1Description: Manufacturer URL; ComponentLink1URL: http://www.national.com/; ComponentLink2Description: LM25066 Datasheet; ComponentLink2URL: http://www.national.com/ds/LM/LM25066A.pdf; ComponentLink3Description: LM25066 Web Page; ComponentLink3URL: http://www.national.com/pf/LM/LM25066.html; ComponentLink4Description: SQA24B Package Page; ComponentLink4URL: http://www.national.com/packaging/folders/sqa24b.html
footprint SQA24B (QFN, 24-Leads, Body 5x4mm, Pitch 0.5mm, NSC Recommended)
pins: 1 ADR2 (power), 2 ADR1 (power), 3 ADR0 (power), 4 VDD (power), 5 CL (power), 6 CB (power), 7 FB (in), 8 ~{RETRY} (in), 9 TIMER, 10 PWR (power), 11 PGD (oc), 12 OUT, 13 GATE, 14 SENSE, 15 VIN (in), 16 UVLO/EN (in), 17 OVLO (in), 18 GND (power), 19 SDA (io), 20 SCL (in), 21 ~{SMBA} (out), 22 VREF, 23 DIODE, 24 VAUX (in), 25 EP (power)

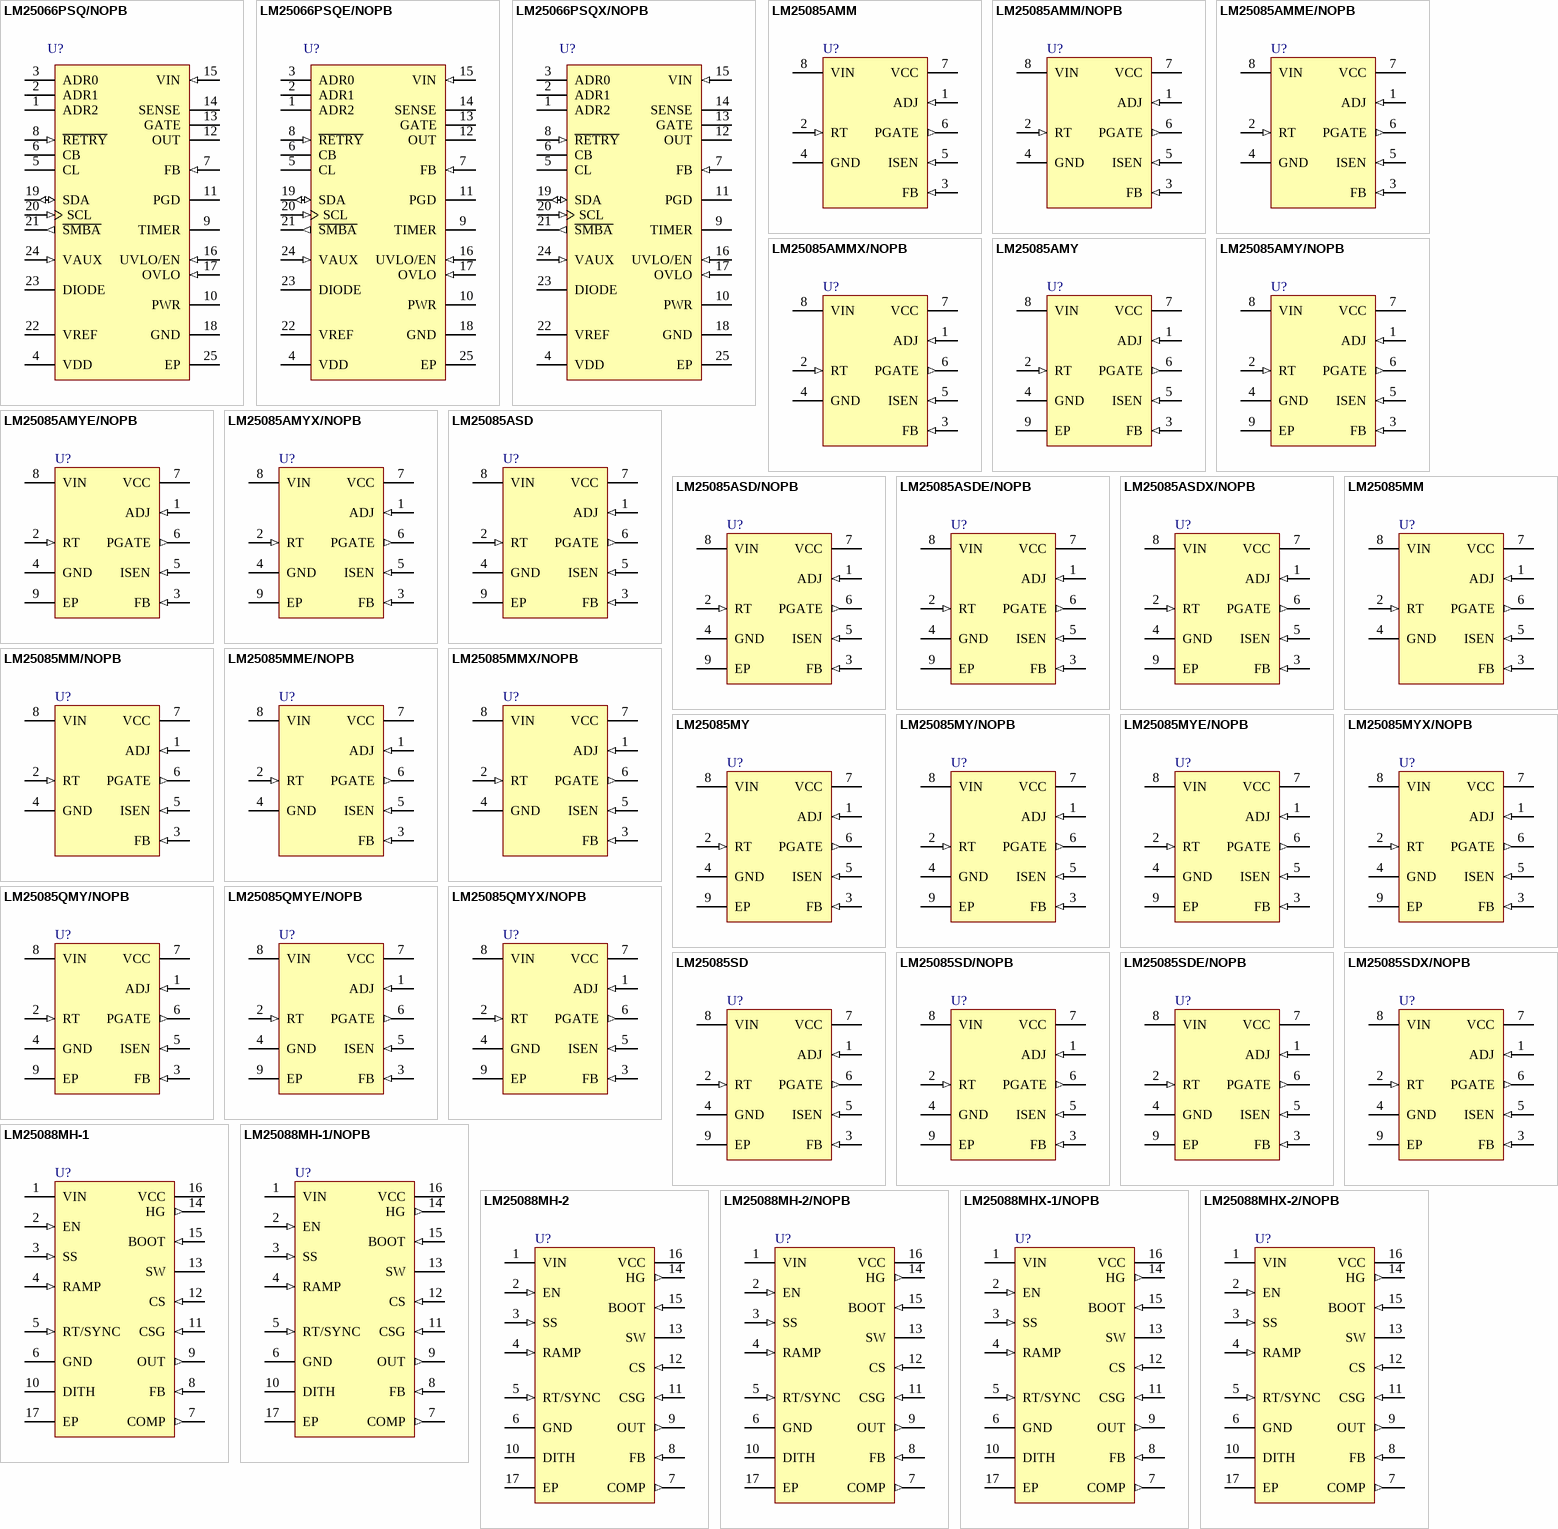
[diagram p34: symbols LM25066PSQ/NOPB to LM25088MHX-2/NOPB]

## LM25066PSQ/NOPB
designator U?
System Power Management and Protection IC with PMBus, 24-pin LLP, 1000 Reel; PartNumber: LM25066PSQ/NOPB; Manufacturer: National Semiconductor; PackageTopMarking: NS*UZXYTT*L25066P; PowerWise: Y; CompType: Switcher; DatasheetVersion: Jan-2011; PackageVersion: revA, Oct-2003; PackageReference: SQA24B; PackageDescription: LLP, Plastic, Quad, 5 x 4 x 0.8mm Body, 24 Lead, 0.5mm Pitch, No Pullback; RoHS: Y; PinCount: 24; High-Reliability: Y; Code_JEDEC: MO-220-WGHD-1; ComponentLink1Description: Manufacturer URL; ComponentLink1URL: http://www.national.com/; ComponentLink2Description: LM25066 Datasheet; ComponentLink2URL: http://www.national.com/ds/LM/LM25066.pdf; ComponentLink3Description: LM25066 Web Page; ComponentLink3URL: http://www.national.com/pf/LM/LM25066.html; ComponentLink4Description: SQA24B Package Page; ComponentLink4URL: http://www.national.com/packaging/folders/sqa24b.html
footprint SQA24B (QFN, 24-Leads, Body 5x4mm, Pitch 0.5mm, NSC Recommended)
pins: 1 ADR2 (power), 2 ADR1 (power), 3 ADR0 (power), 4 VDD (power), 5 CL (power), 6 CB (power), 7 FB (in), 8 ~{RETRY} (in), 9 TIMER, 10 PWR (power), 11 PGD (oc), 12 OUT, 13 GATE, 14 SENSE, 15 VIN (in), 16 UVLO/EN (in), 17 OVLO (in), 18 GND (power), 19 SDA (io), 20 SCL (in), 21 ~{SMBA} (out), 22 VREF, 23 DIODE, 24 VAUX (in), 25 EP (power)

## LM25066PSQE/NOPB
designator U?
System Power Management and Protection IC with PMBus, 24-pin LLP, 250 Reel; PartNumber: LM25066PSQE/NOPB; Manufacturer: National Semiconductor; PackageTopMarking: NS*UZXYTT*L25066P; PowerWise: N; CompType: Switcher; High-Reliability: Y; DatasheetVersion: Jan-2011; PackageVersion: revA, Oct-2003; PackageReference: SQA24B; PackageDescription: LLP, Plastic, Quad, 5 x 4 x 0.8mm Body, 24 Lead, 0.5mm Pitch, No Pullback; RoHS: Y; PinCount: 24; Code_JEDEC: MO-220-WGHD-1; ComponentLink1Description: Manufacturer URL; ComponentLink1URL: http://www.national.com/; ComponentLink2Description: LM25066 Datasheet; ComponentLink2URL: http://www.national.com/ds/LM/LM25066.pdf; ComponentLink3Description: LM25066 Web Page; ComponentLink3URL: http://www.national.com/pf/LM/LM25066.html; ComponentLink4Description: SQA24B Package Page; ComponentLink4URL: http://www.national.com/packaging/folders/sqa24b.html
footprint SQA24B (QFN, 24-Leads, Body 5x4mm, Pitch 0.5mm, NSC Recommended)
pins: 1 ADR2 (power), 2 ADR1 (power), 3 ADR0 (power), 4 VDD (power), 5 CL (power), 6 CB (power), 7 FB (in), 8 ~{RETRY} (in), 9 TIMER, 10 PWR (power), 11 PGD (oc), 12 OUT, 13 GATE, 14 SENSE, 15 VIN (in), 16 UVLO/EN (in), 17 OVLO (in), 18 GND (power), 19 SDA (io), 20 SCL (in), 21 ~{SMBA} (out), 22 VREF, 23 DIODE, 24 VAUX (in), 25 EP (power)

## LM25066PSQX/NOPB
designator U?
System Power Management and Protection IC with PMBus, 24-pin LLP, 4500 Reel; PartNumber: LM25066PSQX/NOPB; Manufacturer: National Semiconductor; PackageTopMarking: NS*UZXYTT*L25066P; PowerWise: Y; CompType: Switcher; DatasheetVersion: Jan-2011; PackageVersion: revA, Oct-2003; PackageReference: SQA24B; PackageDescription: LLP, Plastic, Quad, 5 x 4 x 0.8mm Body, 24 Lead, 0.5mm Pitch, No Pullback; RoHS: Y; PinCount: 24; High-Reliability: Y; Code_JEDEC: MO-220-WGHD-1; ComponentLink1Description: Manufacturer URL; ComponentLink1URL: http://www.national.com/; ComponentLink2Description: LM25066 Datasheet; ComponentLink2URL: http://www.national.com/ds/LM/LM25066.pdf; ComponentLink3Description: LM25066 Web Page; ComponentLink3URL: http://www.national.com/pf/LM/LM25066.html; ComponentLink4Description: SQA24B Package Page; ComponentLink4URL: http://www.national.com/packaging/folders/sqa24b.html
footprint SQA24B (QFN, 24-Leads, Body 5x4mm, Pitch 0.5mm, NSC Recommended)
pins: 1 ADR2 (power), 2 ADR1 (power), 3 ADR0 (power), 4 VDD (power), 5 CL (power), 6 CB (power), 7 FB (in), 8 ~{RETRY} (in), 9 TIMER, 10 PWR (power), 11 PGD (oc), 12 OUT, 13 GATE, 14 SENSE, 15 VIN (in), 16 UVLO/EN (in), 17 OVLO (in), 18 GND (power), 19 SDA (io), 20 SCL (in), 21 ~{SMBA} (out), 22 VREF, 23 DIODE, 24 VAUX (in), 25 EP (power)

## LM25085AMM
designator U?
42V Constant On-Time PFET Buck Switching Controller with 0.9V Reference , 8-pin MSOP; PartNumber: LM25085AMM; Manufacturer: National Semiconductor; PackageTopMarking: ZXTT*SVZA; PowerWise: N; CompType: MiscPower; High-Reliability: Y; DatasheetVersion: Mar-2009; PackageVersion: revF, Apr-2008; PackageReference: MUA08A; PackageDescription: MINI SOIC, .118 x .118 x .034in, 8 Lead, .0256in Pitch; RoHS: Y; PinCount: 8; Code_JEDEC: MO-187-AA; ComponentLink1Description: Manufacturer URL; ComponentLink1URL: http://www.national.com/; ComponentLink2Description: LM25085 Datasheet; ComponentLink2URL: http://www.national.com/ds/LM/LM25085A.pdf; ComponentLink3Description: LM25085 Web Page; ComponentLink3URL: http://www.national.com/pf/LM/LM25085A.html; ComponentLink4Description: MUA08A Package Page; ComponentLink4URL: http://www.national.com/packaging/folders/mua08a.html
footprint MUA08A_N (TSOP, 8-Leads, Body 3x3mm, Pitch 0.65mm, IPC Medium Density)
footprint MUA08A_L (TSOP, 8-Leads, Body 3x3mm, Pitch 0.65mm, IPC High Density)
footprint MUA08A_M (TSOP, 8-Leads, Body 3x3mm, Pitch 0.65mm, IPC Low Density)
pins: 1 ADJ (in), 2 RT (in), 3 FB (in), 4 GND (power), 5 ISEN (in), 6 PGATE (out), 7 VCC (power), 8 VIN (power)

## LM25085AMM/NOPB
designator U?
42V Constant On-Time PFET Buck Switching Controller with 0.9V Reference, 8-pin MSOP, Pb-Free; PartNumber: LM25085AMM/NOPB; Manufacturer: National Semiconductor; PackageTopMarking: ZXTT*SVZA; PowerWise: N; CompType: MiscPower; High-Reliability: Y; DatasheetVersion: Mar-2009; PackageVersion: revF, Apr-2008; PackageReference: MUA08A; PackageDescription: MINI SOIC, .118 x .118 x .034in, 8 Lead, .0256in Pitch; RoHS: Y; PinCount: 8; Code_JEDEC: MO-187-AA; ComponentLink1Description: Manufacturer URL; ComponentLink1URL: http://www.national.com/; ComponentLink2Description: LM25085A Datasheet; ComponentLink2URL: http://www.national.com/ds/LM/LM25085A.pdf; ComponentLink3Description: LM25085A Web Page; ComponentLink3URL: http://www.national.com/pf/LM/LM25085A.html; ComponentLink4Description: MUA08A Package Page; ComponentLink4URL: http://www.national.com/packaging/folders/mua08a.html
footprint MUA08A_N (TSOP, 8-Leads, Body 3x3mm, Pitch 0.65mm, IPC Medium Density)
footprint MUA08A_L (TSOP, 8-Leads, Body 3x3mm, Pitch 0.65mm, IPC High Density)
footprint MUA08A_M (TSOP, 8-Leads, Body 3x3mm, Pitch 0.65mm, IPC Low Density)
pins: 1 ADJ (in), 2 RT (in), 3 FB (in), 4 GND (power), 5 ISEN (in), 6 PGATE (out), 7 VCC (power), 8 VIN (power)

## LM25085AMME/NOPB
designator U?
42V Constant On-Time PFET Buck Switching Controller with 0.9V Reference, 8-pin MSOP, Pb-Free; PartNumber: LM25085AMME/NOPB; Manufacturer: National Semiconductor; PackageTopMarking: ZXTT*SVZA; PowerWise: N; CompType: MiscPower; High-Reliability: Y; DatasheetVersion: Mar-2009; PackageVersion: revF, Apr-2008; PackageReference: MUA08A; PackageDescription: MINI SOIC, .118 x .118 x .034in, 8 Lead, .0256in Pitch; RoHS: Y; PinCount: 8; Code_JEDEC: MO-187-AA; ComponentLink1Description: Manufacturer URL; ComponentLink1URL: http://www.national.com/; ComponentLink2Description: LM25085A Datasheet; ComponentLink2URL: http://www.national.com/ds/LM/LM25085A.pdf; ComponentLink3Description: LM25085A Web Page; ComponentLink3URL: http://www.national.com/pf/LM/LM25085A.html; ComponentLink4Description: MUA08A Package Page; ComponentLink4URL: http://www.national.com/packaging/folders/mua08a.html
footprint MUA08A_N (TSOP, 8-Leads, Body 3x3mm, Pitch 0.65mm, IPC Medium Density)
footprint MUA08A_L (TSOP, 8-Leads, Body 3x3mm, Pitch 0.65mm, IPC High Density)
footprint MUA08A_M (TSOP, 8-Leads, Body 3x3mm, Pitch 0.65mm, IPC Low Density)
pins: 1 ADJ (in), 2 RT (in), 3 FB (in), 4 GND (power), 5 ISEN (in), 6 PGATE (out), 7 VCC (power), 8 VIN (power)

## LM25085AMMX/NOPB
designator U?
42V Constant On-Time PFET Buck Switching Controller with 0.9V Reference, 8-pin MSOP, Pb-Free; PartNumber: LM25085AMMX/NOPB; Manufacturer: National Semiconductor; PackageTopMarking: ZXTT*SVZA; PowerWise: N; CompType: MiscPower; High-Reliability: Y; DatasheetVersion: Mar-2009; PackageVersion: revF, Apr-2008; PackageReference: MUA08A; PackageDescription: MINI SOIC, .118 x .118 x .034in, 8 Lead, .0256in Pitch; RoHS: Y; PinCount: 8; Code_JEDEC: MO-187-AA; ComponentLink1Description: Manufacturer URL; ComponentLink1URL: http://www.national.com/; ComponentLink2Description: LM25085A Datasheet; ComponentLink2URL: http://www.national.com/ds/LM/LM25085A.pdf; ComponentLink3Description: LM25085A Web Page; ComponentLink3URL: http://www.national.com/pf/LM/LM25085A.html; ComponentLink4Description: MUA08A Package Page; ComponentLink4URL: http://www.national.com/packaging/folders/mua08a.html
footprint MUA08A_N (TSOP, 8-Leads, Body 3x3mm, Pitch 0.65mm, IPC Medium Density)
footprint MUA08A_L (TSOP, 8-Leads, Body 3x3mm, Pitch 0.65mm, IPC High Density)
footprint MUA08A_M (TSOP, 8-Leads, Body 3x3mm, Pitch 0.65mm, IPC Low Density)
pins: 1 ADJ (in), 2 RT (in), 3 FB (in), 4 GND (power), 5 ISEN (in), 6 PGATE (out), 7 VCC (power), 8 VIN (power)

## LM25085AMY
designator U?
42V Constant On-Time PFET Buck Switching Controller with 0.9V Reference , 9-pin eMSOP; PartNumber: LM25085AMY; Manufacturer: National Semiconductor; PackageTopMarking: ZXTT*SVYA; PowerWise: N; CompType: MiscPower; High-Reliability: Y; DatasheetVersion: Mar-2009; PackageVersion: revA, Nov-2003; PackageReference: MUY08A; PackageDescription: Molded Mini-SO, Exposed Pad, .118 x .118 x .034in Body, 8 Lead, .0256in Pitch; RoHS: Y; PinCount: 8; Code_JEDEC: MO-187-AA; ComponentLink1Description: Manufacturer URL; ComponentLink1URL: http://www.national.com/; ComponentLink2Description: LM25085 Datasheet; ComponentLink2URL: http://www.national.com/ds/LM/LM25085A.pdf; ComponentLink3Description: LM25085 Web Page; ComponentLink3URL: http://www.national.com/pf/LM/LM25085A.html; ComponentLink4Description: MUY08A Package Page; ComponentLink4URL: http://www.national.com/packaging/folders/muy08a.html
footprint MUY08A_N (TSOP, 8-Leads, Body 3x3mm, Pitch 0.65mm, Thermal Pad, IPC Medium Density)
footprint MUY08A_L (TSOP, 8-Leads, Body 3x3mm, Pitch 0.65mm, Thermal Pad, IPC High Density)
footprint MUY08A_M (TSOP, 8-Leads, Body 3x3mm, Pitch 0.65mm, Thermal Pad, IPC Low Density)
pins: 1 ADJ (in), 2 RT (in), 3 FB (in), 4 GND (power), 5 ISEN (in), 6 PGATE (out), 7 VCC (power), 8 VIN (power), 9 EP (power)